# EAGLE library part I2C-TRANSLATOR-2CH-TCA9406 (library FlashPCB_ICs)
TCA9406 - IC TRANSLTR BIDIRECTIONAL 8VSSOP Technical Specifications: Voltage Level Translator Bidirectional 1 Circuit 2 Channel 24Mbps 8-VSSOP Translator Type: Voltage Level 2-bit, Bi-Directional, I2C/SMBus, UART, GPIO compatible Voltage - VCCA: 1.6V~3.6V Voltage - VCCB: 2.3V~5.5V Component Search: TCA9406 <https://www.flashpcb.com/components> Datasheet: TCA9406 2-Bit Bidirectional 1-MHz, I2C Bus and SMBus Voltage-Level Translator With 8-kV HBM ESD datasheet (Rev. G) <https://www.ti.com/lit/ds/symlink/tca9406.pdf?HQS=dis-dk-null-digikeymode-dsf-pf-null-wwe&ts=1685023935026&ref_url=https%253A%252F%252Fwww.ti.com%252Fgeneral%252Fdocs%252Fsuppproductinfo.tsp%253FdistId%253D10%2526gotoUrl%253Dhttps%253A%252F%252Fwww.ti.com%252Flit%252Fgpn%252Ftca9406>
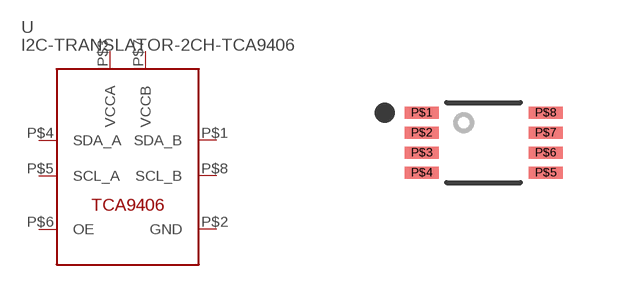
[diagram p50: symbol with the pads of 8-VSSOP-90MIL-2.3MM; footprint 8-VSSOP-90MIL-2.3MM]

Designator prefix U

## I2C-TRANSLATOR-2CH-TCA9406DCU  [8-VSSOP-90MIL-2.3MM]
P$1  SDA_B
P$2  GND
P$3  VCCA
P$4  SDA_A
P$5  SCL_A
P$6  OE
P$7  VCCB
P$8  SCL_B

## Footprint 8-VSSOP-90MIL-2.3MM (pad centres in mm)
smd 0.85 x 0.3: P$1 -1.55,0.75; P$2 -1.55,0.25; P$3 -1.55,-0.25; P$4 -1.55,-0.75; P$5 1.55,-0.75; P$6 1.55,-0.25; P$7 1.55,0.25; P$8 1.55,0.75